# Altium footprint library Power.PcbLib: 4 footprints
Each footprint in its own frame and in the unit in brackets; x right, y up, seen from the top. Pads: shape width x height; smd on the part's side, far side on the other; paste and mask are expansions set on the pad; w line width, h text height; cw(c..) or ccw(c..) is an arc to the next point about the centre after c.
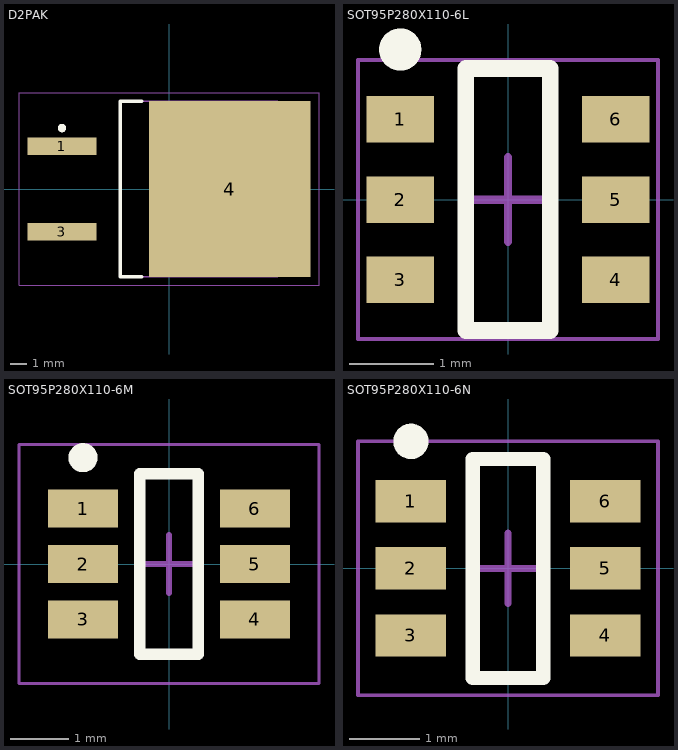
[diagram p0: the footprints below, top view; thin cyan lines are the x and y axes]

## D2PAK [mm] "D2-PAK, 4-Leads, Body 9.2x10.2mm, Pitch 2.54mm, Lead Span 15.4mm, IPC Low Density"
height 4.6
pads (3):
  rect 4.1x1.05 smd: 1(-6.35,2.54) 3(-6.35,-2.54)
  rect 9.6x10.45 smd: 4(3.6,0)
Top Overlay:
  circle w0.25: c-6.35,3.615 r0.125
  lines w0.2: -1.6,-5.2 -2.9,-5.2 -2.9,5.2 -1.6,5.2
Mechanical 13:
  lines w0.1: -2.9,-5.2 -2.9,5.2 6.45,5.2 6.45,-5.2 -2.9,-5.2
Mechanical 15:
  lines w0.05: -8.9,-5.725 -8.9,5.725 8.9,5.725 8.9,-5.725 -8.9,-5.725
  lines w0.1: -0.5,0 0.5,0 ; 0,-0.5 0,0.5
3D body: height 4.6, standoff 0, extent -2.9,-5.2 6.45,5.2

## SOT95P280X110-6L [mm] "SOT23, 6-Leads, Body 2,90x2,80mm, Pitch 0,95mm, IPC High Density"
height 1.1
pads (6):
  rect 0.8x0.55 smd: 1(-1.275,0.95) 2(-1.275,0) 3(-1.275,-0.95) 4(1.275,-0.95) 5(1.275,0) 6(1.275,0.95)
Top Overlay:
  circle w0.25: c-1.275,1.775 r0.125
  lines w0.2: -0.5,-1.55 0.5,-1.55 0.5,1.55 -0.5,1.55 -0.5,-1.55
Mechanical 15:
  lines w0.05: -1.775,-1.65 -1.775,1.65 1.775,1.65 1.775,-1.65 -1.775,-1.65
  lines w0.1: -0.5,0 0.5,0 ; 0,-0.5 0,0.5
3D body "DDC0006A.stp": height 0.97, standoff 0, extent -1.4,-1.45 1.4,1.45

## SOT95P280X110-6M [mm] "SOT23, 6-Leads, Body 2,90x2,80mm, Pitch 0,95mm, IPC Low Density"
height 1.1
pads (6):
  rect 1.2x0.65 smd: 1(-1.475,0.95) 2(-1.475,0) 3(-1.475,-0.95) 4(1.475,-0.95) 5(1.475,0) 6(1.475,0.95)
Top Overlay:
  circle w0.25: c-1.475,1.825 r0.125
  lines w0.2: -0.5,-1.55 -0.5,1.55 0.5,1.55 0.5,-1.55 -0.5,-1.55
Mechanical 15:
  lines w0.05: -2.575,-2.05 2.575,-2.05 2.575,2.05 -2.575,2.05 -2.575,-2.05
  lines w0.1: -0.5,0 0.5,0 ; 0,-0.5 0,0.5
3D body "DDC0006A.stp": height 0.97, standoff 0, extent -1.4,-1.45 1.4,1.45

## SOT95P280X110-6N [mm] "SOT23, 6-Leads, Body 2,90x2,80mm, Pitch 0,95mm, IPC Medium Density"
height 1.1
pads (6):
  rect 1x0.6 smd: 1(-1.375,0.95) 2(-1.375,0) 3(-1.375,-0.95) 4(1.375,-0.95) 5(1.375,0) 6(1.375,0.95)
Top Overlay:
  circle w0.25: c-1.375,1.8 r0.125
  lines w0.2: -0.5,-1.55 -0.5,1.55 0.5,1.55 0.5,-1.55 -0.5,-1.55
Mechanical 15:
  lines w0.05: -2.125,-1.8 2.125,-1.8 2.125,1.8 -2.125,1.8 -2.125,-1.8
  lines w0.1: -0.5,0 0.5,0 ; 0,-0.5 0,0.5
3D body "DDC0006A.stp": height 0.97, standoff 0, extent -1.4,-1.45 1.4,1.45